# EAGLE library part GP1F33TT (library sharp)
DUAL FIBER OPTIC TRANSMITTING MODULE FOR DIGITAL AUDIO EQUIPMENT; TTL Interface
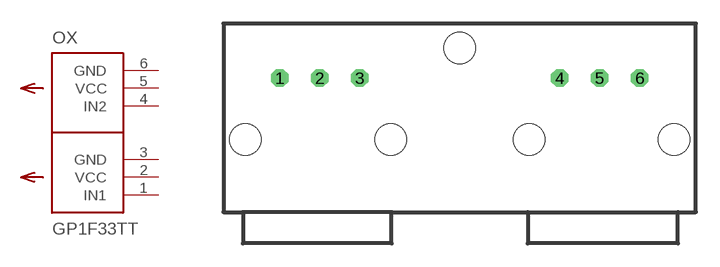
[diagram p0: symbol with the pads of GP1F33TT; footprint GP1F33TT]

Designator prefix OX

## GP1F33TT  [GP1F33TT]
1  IN1  in
2  VCC  pwr
3  GND  pwr
4  IN2  in
5  VCC  pwr
6  GND  pwr

## Footprint GP1F33TT (pad centres in mm)
drill 0.6 octagon: 1 -10.16,0; 2 -7.62,0; 3 -5.08,0; 4 7.62,0; 5 10.16,0; 6 12.7,0
hole 2 at -3.116,-3.889
hole 2 at 1.27,1.905
hole 2 at 5.677,-3.889
hole 2 at 14.864,-3.889
hole 2 at -12.324,-3.889